# EAGLE library part P82B715DR (library SamacSys_Parts)
I2C Bus Extender Source: Datasheet <http://www.ti.com/lit/gpn/p82b715>
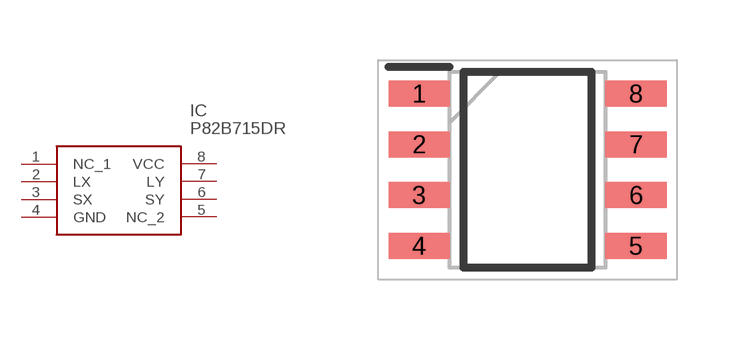
[diagram p2: symbol with the pads of SOIC127P600X175-8N; footprint SOIC127P600X175-8N]

Designator prefix IC

## P82B715DR (DESCRIPTION: I2C Bus Extender; HEIGHT: 1.75mm; MANUFACTURER_NAME: Texas Instruments; MANUFACTURER_PART_NUMBER: P82B715DR)  [SOIC127P600X175-8N]
1  NC_1
2  LX
3  SX
4  GND  pwr
5  NC_2
6  SY
7  LY
8  VCC  pwr

## Footprint SOIC127P600X175-8N (pad centres in mm)
8-SOIC (0.154", 3.90mm Width)
smd 1.528 x 0.65: 1 -2.711,1.905; 2 -2.711,0.635; 3 -2.711,-0.635; 4 -2.711,-1.905; 5 2.711,-1.905; 6 2.711,-0.635; 7 2.711,0.635; 8 2.711,1.905